# Altium schematic symbol library res_smd_KoaSpeer0402_thickfilm.SchLib: 12 symbols
Pins are listed as number, name and electrical type; pins without a type are passive.

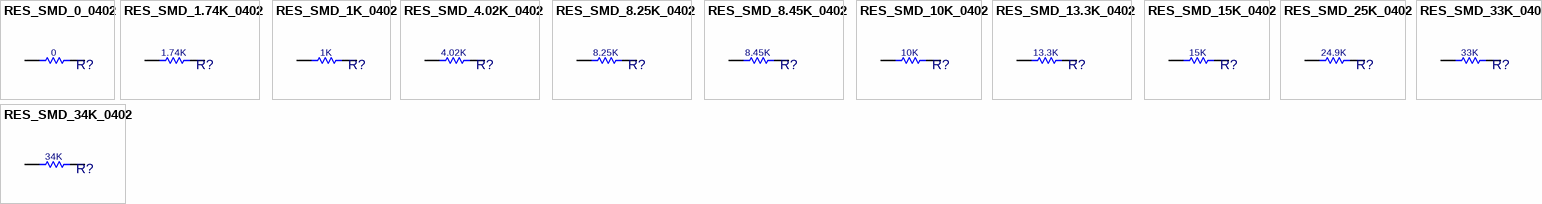
[diagram p0: symbols RES_SMD_0_0402 to RES_SMD_34K_0402]

## RES_SMD_0_0402
designator R?, comment 0
RESISTOR, SMD; MANF_P#: RK73Z1ETTP; MANF: KOA SPEER; PARAM: 0.063W; DESC: DESCRIPTION; DIST#: MOUSER; PARAM2: 1%; ASSEMBLY: ASSEMBLY; PRICE: 100= 0.8$; VALUE: 0
footprint R0402 (CHIP Resistor 1/16 WATT, 1.0X0.5mm, 0402, 1005)
pins: 1, 2

## RES_SMD_1.74K_0402
designator R?, comment 1.74K
RESISTOR, SMD; MANF_P#: RK73H1ETTP1741F; MANF: KOA SPEER; PARAM: 0.063W; DESC: DESCRIPTION; DIST#: MOUSER; PARAM2: 1%; ASSEMBLY: ASSEMBLY; PRICE: 100= 0.8$; VALUE: 1.74K
footprint R0402 (CHIP Resistor 1/16 WATT, 1.0X0.5mm, 0402, 1005)
pins: 1, 2

## RES_SMD_1K_0402
designator R?, comment 1K
RESISTOR, SMD; MANF_P#: RK73H1ETTP1001F; MANF: KOA SPEER; PARAM: 0.063W; DESC: DESCRIPTION; DIST#: MOUSER; PARAM2: 1%; ASSEMBLY: ASSEMBLY; PRICE: 100= 0.8$; VALUE: 1K
footprint R0402 (CHIP Resistor 1/16 WATT, 1.0X0.5mm, 0402, 1005)
pins: 1, 2

## RES_SMD_4.02K_0402
designator R?, comment 4.02K
RESISTOR, SMD; MANF_P#: RK73H1ETTP4021F; MANF: KOA SPEER; PARAM: 0.063W; DESC: DESCRIPTION; DIST#: MOUSER; PARAM2: 1%; ASSEMBLY: ASSEMBLY; PRICE: 100= 0.8$; VALUE: 4.02K
footprint R0402 (CHIP Resistor 1/16 WATT, 1.0X0.5mm, 0402, 1005)
pins: 1, 2

## RES_SMD_8.25K_0402
designator R?, comment 8.25K
RESISTOR, SMD; MANF_P#: RK73H1ETTP8251F; MANF: KOA SPEER; PARAM: 0.063W; DESC: DESCRIPTION; DIST#: MOUSER; PARAM2: 1%; ASSEMBLY: ASSEMBLY; PRICE: 100= 0.8$; VALUE: 8.25K
footprint R0402 (CHIP Resistor 1/16 WATT, 1.0X0.5mm, 0402, 1005)
pins: 1, 2

## RES_SMD_8.45K_0402
designator R?, comment 8.45K
RESISTOR, SMD; MANF_P#: RK73H1ETTP8451F; MANF: KOA SPEER; PARAM: 0.063W; DESC: DESCRIPTION; DIST#: MOUSER; PARAM2: 1%; ASSEMBLY: ASSEMBLY; PRICE: 100= 0.8$; VALUE: 8.45K
footprint R0402 (CHIP Resistor 1/16 WATT, 1.0X0.5mm, 0402, 1005)
pins: 1, 2

## RES_SMD_10K_0402
designator R?, comment 10K
RESISTOR, SMD; MANF_P#: RK73H1ETTP1002F; MANF: KOA SPEER; PARAM: 0.063W; DESC: DESCRIPTION; DIST#: MOUSER; PARAM2: 1%; ASSEMBLY: ASSEMBLY; PRICE: 100= 0.8$; VALUE: 10K
footprint R0402 (CHIP Resistor 1/16 WATT, 1.0X0.5mm, 0402, 1005)
pins: 1, 2

## RES_SMD_13.3K_0402
designator R?, comment 13.3K
RESISTOR, SMD; MANF_P#: RK73H1ETTP1332F; MANF: KOA SPEER; PARAM: 0.063W; DESC: DESCRIPTION; DIST#: MOUSER; PARAM2: 1%; ASSEMBLY: ASSEMBLY; PRICE: 100= 0.8$; VALUE: 13.3K
footprint R0402 (CHIP Resistor 1/16 WATT, 1.0X0.5mm, 0402, 1005)
pins: 1, 2

## RES_SMD_15K_0402
designator R?, comment 15K
RESISTOR, SMD; MANF_P#: RK73H1ETQTP1502F; MANF: KOA SPEER; PARAM: 0.063W; DESC: DESCRIPTION; DIST#: MOUSER; PARAM2: 1%; ASSEMBLY: ASSEMBLY; PRICE: 100= 0.8$; VALUE: 15K
footprint R0402 (CHIP Resistor 1/16 WATT, 1.0X0.5mm, 0402, 1005)
pins: 1, 2

## RES_SMD_25K_0402
designator R?, comment 24.9K
RESISTOR, SMD; MANF_P#: RK73H1ETTP2492F; MANF: KOA SPEER; PARAM: 0.063W; DESC: DESCRIPTION; DIST#: MOUSER; PARAM2: 1%; ASSEMBLY: ASSEMBLY; PRICE: 100= 0.8$; VALUE: 24.9K
footprint R0402 (CHIP Resistor 1/16 WATT, 1.0X0.5mm, 0402, 1005)
pins: 1, 2

## RES_SMD_33K_0402
designator R?, comment 33K
RESISTOR, SMD; MANF_P#: RK73H1ETTP3302F; MANF: KOA SPEER; PARAM: 0.063W; DESC: DESCRIPTION; DIST#: MOUSER; PARAM2: 1%; ASSEMBLY: ASSEMBLY; PRICE: 100= 0.8$; VALUE: 33K
footprint R0402 (CHIP Resistor 1/16 WATT, 1.0X0.5mm, 0402, 1005)
pins: 1, 2

## RES_SMD_34K_0402
designator R?, comment 34K
RESISTOR, SMD; MANF_P#: RK73H1ETTP3402F; MANF: KOA SPEER; PARAM: 0.063W; DESC: DESCRIPTION; DIST#: MOUSER; PARAM2: 1%; ASSEMBLY: ASSEMBLY; PRICE: 100= 0.8$; VALUE: 34K
footprint R0402 (CHIP Resistor 1/16 WATT, 1.0X0.5mm, 0402, 1005)
pins: 1, 2